# EAGLE library part 618015233821 (library Wurth-USB)
WR-DSUB 10.3mm Female Angled PCB Connector without Hex Screw 15 Pins=>Code : Con_I-O_DSUB_PCB_Female_wo-screw_618015233821 <https://katalog.we-online.com/media/images/v2/o60818v209%20Family_I-O_DSUB_PCB_Female_wo-screw_6180xx211821_pf2.jpg> Details see: https://katalog.we-online.com/en/em/DSUB_FEMALE_ANGLED_PCB_CONNECTOR_W_O_HEX_SCREW_10_30MM_6180XX233821 Updated by Ella Wu 2019-03-21 2019 (C) Würth Elektronik
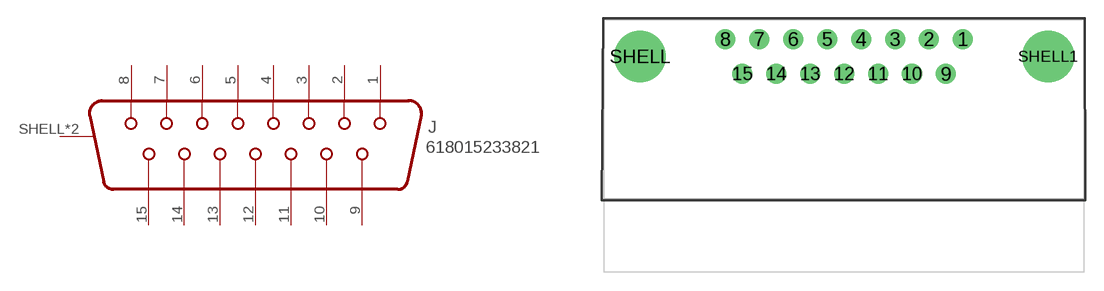
[diagram p45: symbol with the pads of 618015233821; footprint 618015233821]

Designator prefix J

## 618015233821 (WE-NUMBER: 618015233821)  [618015233821]
1  1
2  2
3  3
4  4
5  5
6  6
7  7
8  8
9  9
10  10
11  11
12  12
13  13
14  14
15  15
SHELL  SHIELD
SHELL1  SHIELD

## Footprint 618015233821 (pad centres in mm)
WR-DSUB 10.3mm Female Angled PCB Connector without Hex Screw, 15 Pins
drill 1.09: 1 9.695,1.42; 2 6.925,1.42; 3 4.155,1.42; 4 1.385,1.42; 5 -1.385,1.42; 6 -4.155,1.42; 7 -6.925,1.42; 8 -9.695,1.42; 9 8.31,-1.42; 10 5.54,-1.42; 11 2.77,-1.42; 12 0,-1.42; 13 -2.77,-1.42; 14 -5.54,-1.42; 15 -8.31,-1.42
drill 3.2: SHELL -16.66,0; SHELL1 16.66,0